# Altium schematic symbol library LPC单片机原理图库.SchLib: 1 symbol
Pins are listed as number, name and electrical type; pins without a type are passive.

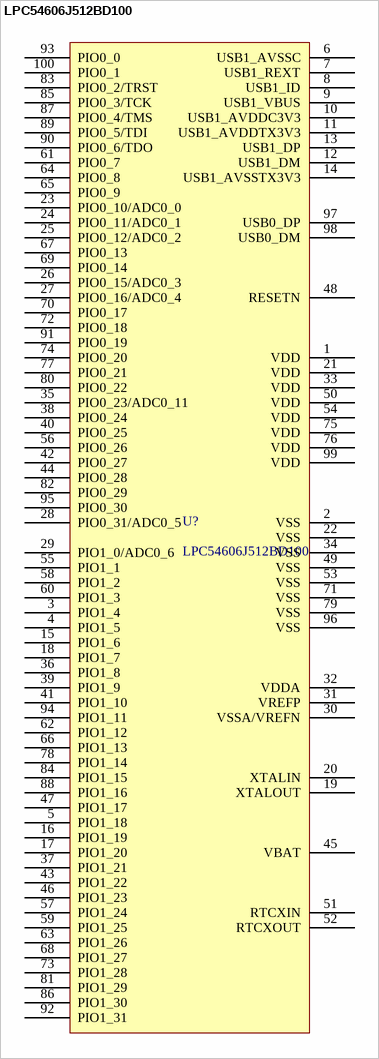
[diagram p0: symbol LPC54606J512BD100]

## LPC54606J512BD100
designator U?
NXP LPC54606
footprint LQFP100 (Thin QFP, 100-Leads, Body 14x14mm, Pitch 0.5mm, IPC Low Density)
pins: 1 VDD, 2 VSS, 3 PIO1_4, 4 PIO1_5, 5 PIO1_18, 6 USB1_AVSSC, 7 USB1_REXT, 8 USB1_ID, 9 USB1_VBUS, 10 USB1_AVDDC3V3, 11 USB1_AVDDTX3V3, 12 USB1_DM, 13 USB1_DP, 14 USB1_AVSSTX3V3, 15 PIO1_6, 16 PIO1_19, 17 PIO1_20, 18 PIO1_7, 19 XTALOUT, 20 XTALIN, 21 VDD, 22 VSS, 23 PIO0_10/ADC0_0, 24 PIO0_11/ADC0_1, 25 PIO0_12/ADC0_2, 26 PIO0_15/ADC0_3, 27 PIO0_16/ADC0_4, 28 PIO0_31/ADC0_5, 29 PIO1_0/ADC0_6, 30 VSSA/VREFN, 31 VREFP, 32 VDDA, 33 VDD, 34 VSS, 35 PIO0_23/ADC0_11, 36 PIO1_8, 37 PIO1_21, 38 PIO0_24, 39 PIO1_9, 40 PIO0_25, 41 PIO1_10, 42 PIO0_27, 43 PIO1_22, 44 PIO0_28, 45 VBAT, 46 PIO1_23, 47 PIO1_17, 48 RESETN, 49 VSS, 50 VDD, 51 RTCXIN, 52 RTCXOUT, 53 VSS, 54 VDD, 55 PIO1_1, 56 PIO0_26, 57 PIO1_24, 58 PIO1_2, 59 PIO1_25, 60 PIO1_3, 61 PIO0_7, 62 PIO1_12, 63 PIO1_26, 64 PIO0_8, 65 PIO0_9, 66 PIO1_13, 67 PIO0_13, 68 PIO1_27, 69 PIO0_14, 70 PIO0_17, 71 VSS, 72 PIO0_18, 73 PIO1_28, 74 PIO0_20, 75 VDD, 76 VDD, 77 PIO0_21, 78 PIO1_14, 79 VSS, 80 PIO0_22, 81 PIO1_29, 82 PIO0_29, 83 PIO0_2/TRST, 84 PIO1_15, 85 PIO0_3/TCK, 86 PIO1_30, 87 PIO0_4/TMS, 88 PIO1_16, 89 PIO0_5/TDI, 90 PIO0_6/TDO, 91 PIO0_19, 92 PIO1_31, 93 PIO0_0, 94 PIO1_11, 95 PIO0_30, 96 VSS, 97 USB0_DP, 98 USB0_DM, 99 VDD, 100 PIO0_1